# EAGLE library part TPA3111D1 (library BaseApp)
Digi-Key Part Number : 296-25121-1-ND Thermal pads must be connected to ground. Package not to be confused with TSSOP.
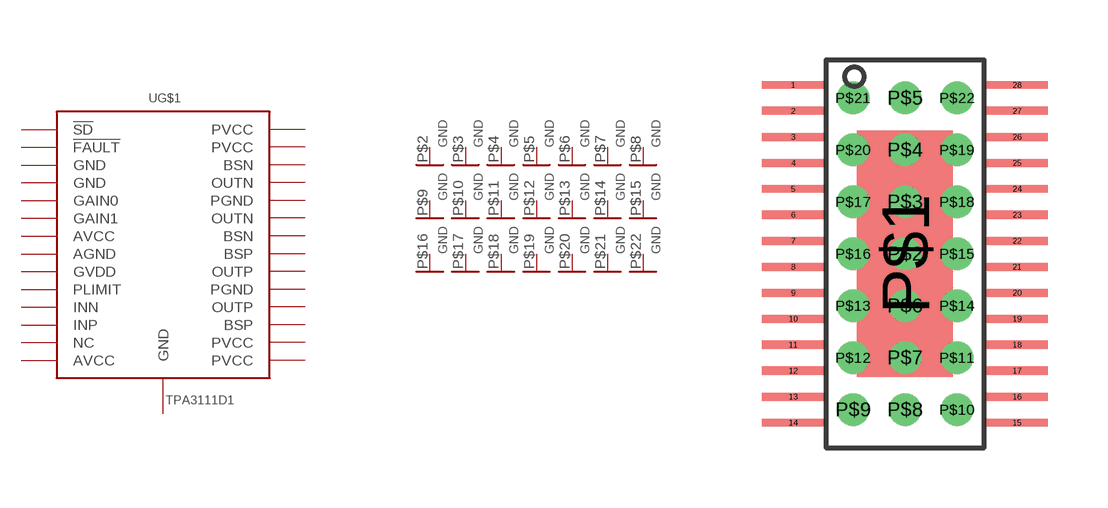
[diagram p76: symbol with the pads of HTSSOP28; footprint HTSSOP28]

Designator prefix -; gates G$1=TPA3111D1 G$2=GND G$3=GND G$4=GND G$5=GND G$6=GND G$7=GND G$8=GND G$9=GND G$10=GND G$11=GND G$12=GND G$13=GND G$14=GND G$15=GND G$16=GND G$17=GND G$18=GND G$19=GND G$20=GND G$21=GND G$22=GND

## TPA3111D1  [HTSSOP28]
1  G$1:!SD
2  G$1:!FAULT
3  G$1:GND
4  G$1:GND
5  G$1:GAIN0
6  G$1:GAIN1
7  G$1:AVCC
8  G$1:AGND
9  G$1:GVDD
10  G$1:PLIMIT
11  G$1:INN
12  G$1:INP
13  G$1:NC
14  G$1:AVCC
15  G$1:PVCC
16  G$1:PVCC
17  G$1:BSP
18  G$1:OUTP
19  G$1:PGND
20  G$1:OUTP
21  G$1:BSP
22  G$1:BSN
23  G$1:OUTN
24  G$1:PGND
25  G$1:OUTN
26  G$1:BSN
27  G$1:PVCC
28  G$1:PVCC
P$1  G$1:GND
P$2  G$2:GND  sup
P$3  G$3:GND  sup
P$4  G$4:GND  sup
P$5  G$5:GND  sup
P$6  G$6:GND  sup
P$7  G$7:GND  sup
P$8  G$8:GND  sup
P$9  G$9:GND  sup
P$10  G$10:GND  sup
P$11  G$11:GND  sup
P$12  G$12:GND  sup
P$13  G$13:GND  sup
P$14  G$14:GND  sup
P$15  G$15:GND  sup
P$16  G$16:GND  sup
P$17  G$17:GND  sup
P$18  G$18:GND  sup
P$19  G$19:GND  sup
P$20  G$20:GND  sup
P$21  G$21:GND  sup
P$22  G$22:GND  sup

## Footprint HTSSOP28 (pad centres in mm)
smd 1.55 x 0.2: 1 -2.8,4.225; 2 -2.8,3.575; 3 -2.8,2.925; 4 -2.8,2.275; 5 -2.8,1.625; 6 -2.8,0.975; 7 -2.8,0.325; 8 -2.8,-0.325; 9 -2.8,-0.975; 10 -2.8,-1.625; 11 -2.8,-2.275; 12 -2.8,-2.925; 13 -2.8,-3.575; 14 -2.8,-4.225; 15 2.8,-4.225; 16 2.8,-3.575; 17 2.8,-2.925; 18 2.8,-2.275; 19 2.8,-1.625; 20 2.8,-0.975; 21 2.8,-0.325; 22 2.8,0.325; 23 2.8,0.975; 24 2.8,1.625; 25 2.8,2.275; 26 2.8,2.925; 27 2.8,3.575; 28 2.8,4.225
smd 2.4 x 6.17: P$1 0,0
drill 0.3: P$2 0,0; P$3 0,1.3; P$4 0,2.6; P$5 0,3.9; P$6 0,-1.3; P$7 0,-2.6; P$8 0,-3.9; P$9 -1.3,-3.9; P$10 1.3,-3.9; P$11 1.3,-2.6; P$12 -1.3,-2.6; P$13 -1.3,-1.3; P$14 1.3,-1.3; P$15 1.3,0; P$16 -1.3,0; P$17 -1.3,1.3; P$18 1.3,1.3; P$19 1.3,2.6; P$20 -1.3,2.6; P$21 -1.3,3.9; P$22 1.3,3.9